# Altium footprint library 4x0402.PcbLib: 1 footprints
Each footprint in its own frame and in the unit in brackets; x right, y up, seen from the top. Pads: shape width x height; smd on the part's side, far side on the other; paste and mask are expansions set on the pad; w line width, h text height; cw(c..) or ccw(c..) is an arc to the next point about the centre after c.
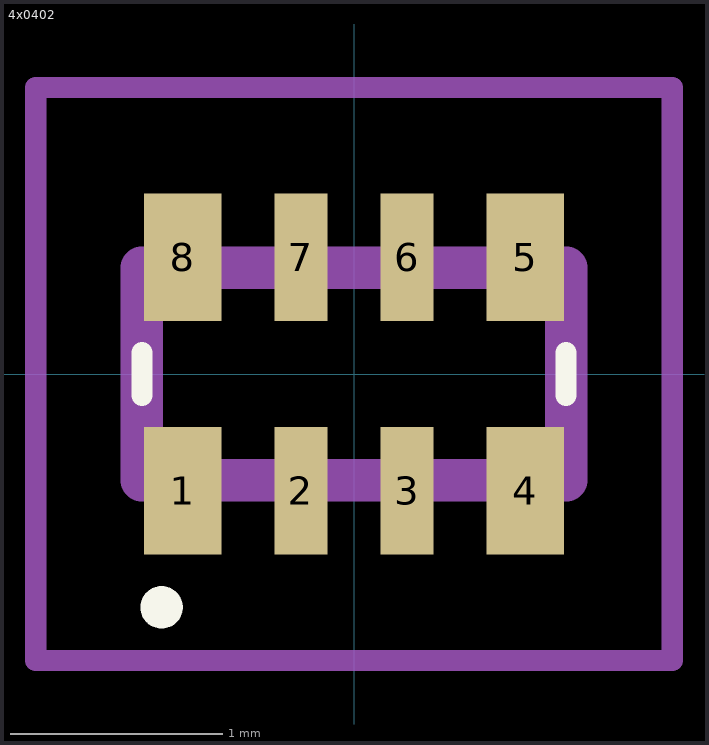
[diagram p0: the footprint, top view; thin cyan lines are the x and y axes]

## 4x0402 [mm]
pads (8):
  rect 0.365x0.6 smd: 1(-0.807,-0.55) 4(0.807,-0.55) 5(0.807,0.55) 8(-0.807,0.55)
  rect 0.25x0.6 smd: 2(-0.25,-0.55) 3(0.25,-0.55) 6(0.25,0.55) 7(-0.25,0.55)
Top Overlay:
  lines w0.1: -1,-0.1 -1,0.1 ; 1,-0.1 1,0.1 ; -0.957,-1.1 ccw(c-0.907,-1.1) -0.857,-1.1 ccw(c-0.907,-1.1) -0.957,-1.1
Mechanical 13:
  lines w0.2: -1,-0.5 1,-0.5 1,0.5 -1,0.5 -1,-0.5
Mechanical 15:
  lines w0.1: -1.5,-1.35 1.5,-1.35 1.5,1.35 -1.5,1.35 -1.5,-1.35
3D body "EXB-N8V101JX.stp": height 0.35, standoff 0, extent -1,-0.5 1,0.5